# Altium schematic symbol library Resistance0603.SchLib: 1 symbol
Pins are listed as number, name and electrical type; pins without a type are passive.

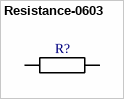
[diagram p0: symbol Resistance-0603]

## Resistance-0603
designator R?  (value not drawn)
Manufacturer: YAGEO; Manufacturer Part Number: RC0603FR-0710KL; Supplier: DigiKey; Supplier Part Number: 311-10.0KHRTR-ND; Value: *
footprint RESC1508X03N (Chip Resistor, 2-Leads, Body 1.55x0.80mm, IPC Medium Density)
pins: 1, 2 1